# EAGLE library part MCP2515 (library yaca)
MCP2515 CAN controller from Microchip
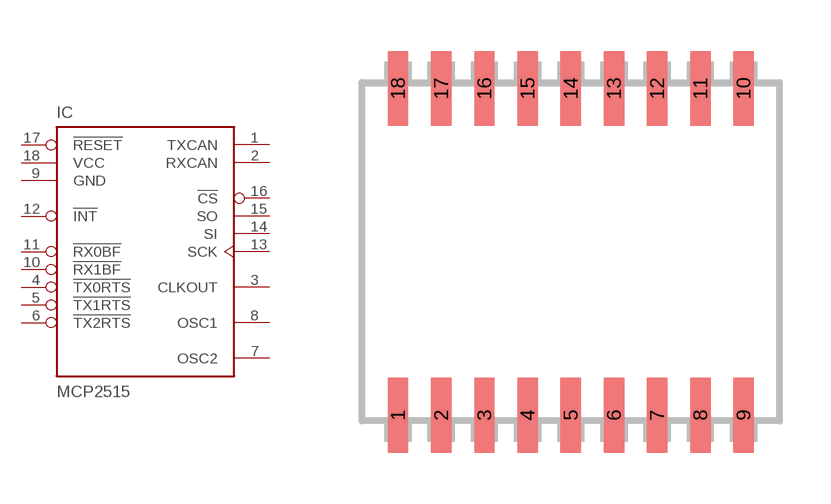
[diagram p0: symbol with the pads of SO18; footprint SO18]

Designator prefix IC

## MCP2515SO  [SO18]
1  TXCAN  out
2  RXCAN  in
3  CLKOUT  out
4  !TX0RTS  out
5  !TX1RTS  out
6  !TX2RTS  out
7  OSC2
8  OSC1
9  GND  pwr
10  !RX1BF  out
11  !RX0BF  out
12  !INT  out
13  SCK  in
14  SI
15  SO
16  !CS  in
17  !RESET  in
18  VCC  pwr

## Footprint SO18 (pad centres in mm)
SO-18 package
smd 0.6 x 2.2: 1 -5.08,-4.8; 2 -3.81,-4.8; 3 -2.54,-4.8; 4 -1.27,-4.8; 5 0,-4.8; 6 1.27,-4.8; 7 2.54,-4.8; 8 3.81,-4.8; 9 5.08,-4.8; 10 5.08,4.8; 11 3.81,4.8; 12 2.54,4.8; 13 1.27,4.8; 14 0,4.8; 15 -1.27,4.8; 16 -2.54,4.8; 17 -3.81,4.8; 18 -5.08,4.8